# EAGLE library part BLUE_PILL (library STM32F103-BLUEPILL-BOARD)
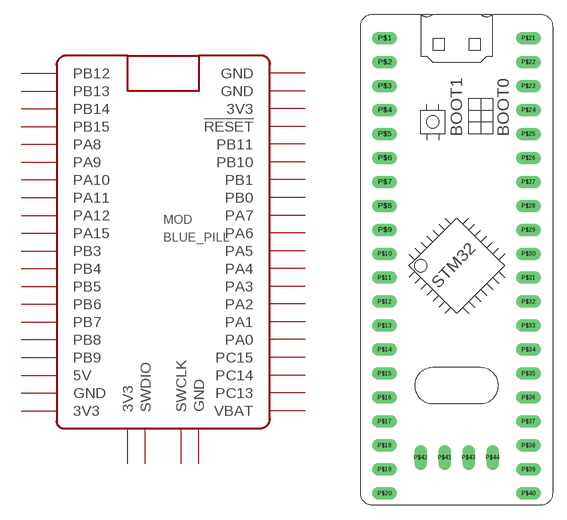
[diagram p0: symbol with the pads of BLUE_PILL; footprint BLUE_PILL]

Designator prefix MOD

## BLUE_PILL  [BLUE_PILL]
P$1  PB12
P$2  PB13
P$3  PB14
P$4  PB15
P$5  PA8
P$6  PA9
P$7  PA10
P$8  PA11
P$9  PA12
P$10  PA15
P$11  PB3
P$12  PB4
P$13  PB5
P$14  PB6
P$15  PB7
P$16  PB8
P$17  PB9
P$18  5V
P$19  GND  pas
P$20  3V3
P$21  GND  pas
P$22  GND  pas
P$23  3V3
P$24  !RESET
P$25  PB11
P$26  PB10
P$27  PB1
P$28  PB0
P$29  PA7
P$30  PA6
P$31  PA5
P$32  PA4
P$33  PA3
P$34  PA2
P$35  PA1
P$36  PA0
P$37  PC15
P$38  PC14
P$39  PC13
P$40  VBAT
P$41  SWDIO
P$42  3V3
P$43  SWCLK
P$44  GND  pas

## Footprint BLUE_PILL (pad centres in mm)
drill 0.8 long: P$1 -7.62,15.24; P$2 -7.62,12.7; P$3 -7.62,10.16; P$4 -7.62,7.62; P$5 -7.62,5.08; P$6 -7.62,2.54; P$7 -7.62,0; P$8 -7.62,-2.54; P$9 -7.62,-5.08; P$10 -7.62,-7.62; P$11 -7.62,-10.16; P$12 -7.62,-12.7; P$13 -7.62,-15.24; P$14 -7.62,-17.78; P$15 -7.62,-20.32; P$16 -7.62,-22.86; P$17 -7.62,-25.4; P$18 -7.62,-27.94; P$19 -7.62,-30.48; P$20 -7.62,-33.02; P$21 7.62,15.24; P$22 7.62,12.7; P$23 7.62,10.16; P$24 7.62,7.62; P$25 7.62,5.08; P$26 7.62,2.54; P$27 7.62,0; P$28 7.62,-2.54; P$29 7.62,-5.08; P$30 7.62,-7.62; P$31 7.62,-10.16; P$32 7.62,-12.7; P$33 7.62,-15.24; P$34 7.62,-17.78; P$35 7.62,-20.32; P$36 7.62,-22.86; P$37 7.62,-25.4; P$38 7.62,-27.94; P$39 7.62,-30.48; P$40 7.62,-33.02; P$41 -1.27,-29.21; P$42 -3.81,-29.21; P$43 1.27,-29.21; P$44 3.81,-29.21